# EAGLE library part GK_EXPANSION_BOARD (library 029000100  -  gKEagleLibrary)
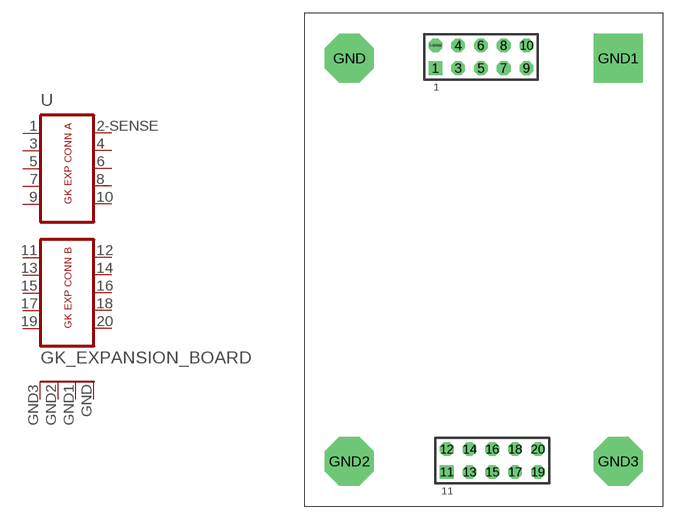
[diagram p10: symbol with the pads of GK_EXPANSION_BOARD; footprint GK_EXPANSION_BOARD]

Designator prefix -

## GK_EXPANSION_BOARD  [GK_EXPANSION_BOARD]
1  1  pas
2-SENSE  KEY  pas
3  3  pas
4  4  pwr
5  5  pas
6  6  pwr
7  7  pas
8  8  pas
9  9  pwr
10  10  pwr
11  11  pas
12  12  pas
13  13  pas
14  14  pas
15  15  pas
16  16  pas
17  17  pas
18  18  pas
19  19  pas
20  20  pwr
GND  GND  pwr
GND1  GND1  pwr
GND2  GND2  pwr
GND3  GND3  pwr

## Footprint GK_EXPANSION_BOARD (pad centres in mm)
drill 1.016 square: 1 14.605,48.895; 11 15.875,3.81
drill 1.016 octagon: 2-SENSE 14.605,51.435; 3 17.145,48.895; 4 17.145,51.435; 5 19.685,48.895; 6 19.685,51.435; 7 22.225,48.895; 8 22.225,51.435; 9 24.765,48.895; 10 24.765,51.435; 12 15.875,6.35; 13 18.415,3.81; 14 18.415,6.35; 15 20.955,3.81; 16 20.955,6.35; 17 23.495,3.81; 18 23.495,6.35; 19 26.035,3.81; 20 26.035,6.35
drill 3.32 pad 5.5 octagon: GND 5,50; GND2 5,5; GND3 35,5
drill 3.32 pad 5.5 square: GND1 35,50